# Altium schematic symbol library passive.SchLib: 3 symbols
Pins are listed as number, name and electrical type; pins without a type are passive.

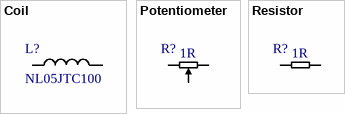
[diagram p0: symbols Coil to Resistor]

## Coil
designator L?, comment NL05JTC100
SMD coil; Inductance: 10uH; Tolerance: +/- 20%; Impedance (DCR): 100mohm; Rated current: 1.44A; ComponentLink1Description: Datasheet; ComponentLink1URL: https://www.piekarz.pl/pdf.php?id=28071
footprint 0805
pins: 1, 2

## Potentiometer
designator R?  Resistance: 1R  (hidden comment: *)
Nominal power: 125mW; Type: linear
footprint TM3FJ
pins: 1, 2, 3

## Resistor
designator R?  Resistance: 1R  (hidden comment: *)
Nominal power: 125mW
footprint 0805
pins: 1, 2